# Altium integrated library esp32.IntLib: 1 symbol
Pins are listed as number, name and electrical type; pins without a type are passive.

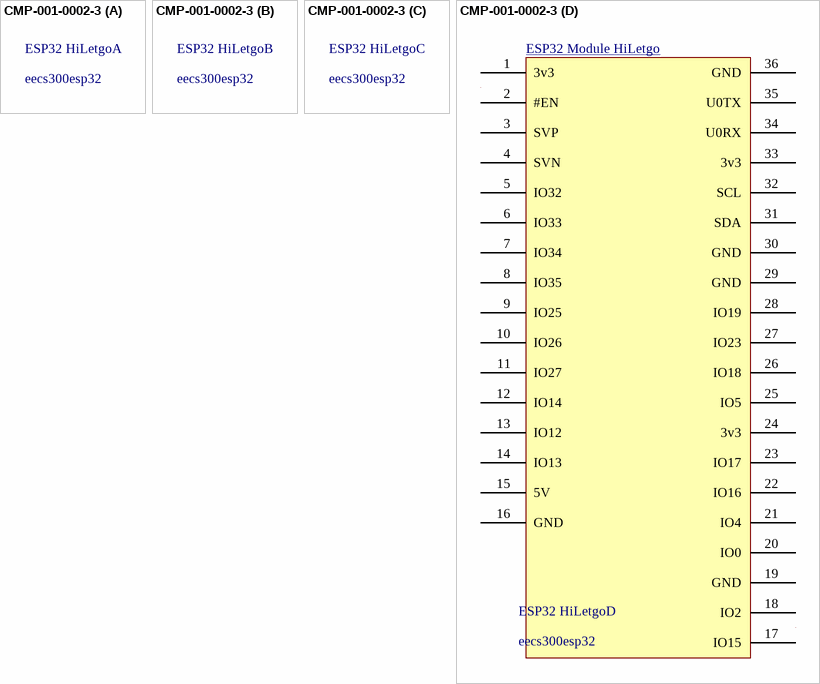
[diagram p0: symbol CMP-001-0002-3]

## CMP-001-0002-3
designator ESP32 HiLetgo, comment eecs300esp32
HiLetgo ESP32 knock off
footprint eecs300esp32-Footprint-1
part D pins: 1 3v3, 2 #EN, 3 SVP, 4 SVN, 5 IO32, 6 IO33, 7 IO34, 8 IO35, 9 IO25, 10 IO26, 11 IO27, 12 IO14, 13 IO12, 14 IO13, 15 5V, 16 GND, 17 IO15, 18 IO2, 19 GND, 20 IO0, 21 IO4, 22 IO16, 23 IO17, 24 3v3, 25 IO5, 26 IO18, 27 IO23, 28 IO19, 29 GND, 30 GND, 31 SDA, 32 SCL, 33 3v3, 34 U0RX, 35 U0TX, 36 GND
part D text: ESP32 Module HiLetgo